# Altium schematic symbol library CRGCQ0603J22K.SchLib: 1 symbol
Pins are listed as number, name and electrical type; pins without a type are passive.

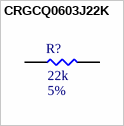
[diagram p0: symbol CRGCQ0603J22K]

## CRGCQ0603J22K
designator R?  Resistance: 22k  Tolerance: 5%  (hidden comment: CRGCQ0603J22K)
CRGCQ 0603 22K 5%; MFR: TE Connectivity Passive Product; Power Rating: 1/10W; PN: CRGCQ0603J22K; Footprint: RES0603; Package: 0603; ComponentLink1Description: Datasheet; ComponentLink1URL: https://www.te.com/commerce/DocumentDelivery/DDEController?Action=srchrtrv&DocNm=1773204-3&DocType=DS&DocLang=English; Supplier 1: Digi-Key; Supplier Part Number 1: A130099CT-ND
footprint RES0603 (Generic 0603)
pins: 1, 2